# EAGLE library part TPS62160 (library texas_pwr)
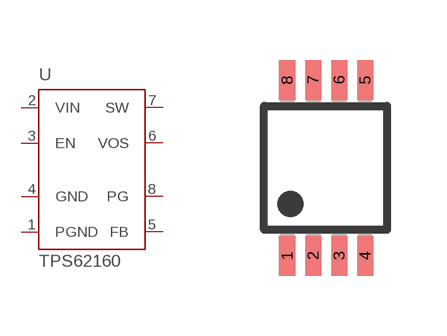
[diagram p0: symbol with the pads of DGK_S-PDSO-G8; footprint DGK_S-PDSO-G8]

Designator prefix U

## TPS6216012, TPS621601212  [DGK_S-PDSO-G8]
1  PGND  pas
2  VIN  in
3  EN  in
4  GND  pwr
5  FB  in
6  VOS  out
7  SW  out
8  PG  pas

## Footprint DGK_S-PDSO-G8 (pad centres in mm)
DGK (S-PDSO-G8) Source: http://focus.ti.com/lit/ds/scas794/scas794.pdf
smd 0.4 x 1: 1 -0.975,-2.2; 2 -0.325,-2.2; 3 0.325,-2.2; 4 0.975,-2.2; 5 0.975,2.2; 6 0.325,2.2; 7 -0.325,2.2; 8 -0.975,2.2